# Altium footprint library SN74LS48N.PcbLib: 1 footprints
Each footprint in its own frame and in the unit in brackets; x right, y up, seen from the top. Pads: shape width x height; smd on the part's side, far side on the other; paste and mask are expansions set on the pad; w line width, h text height; cw(c..) or ccw(c..) is an arc to the next point about the centre after c.
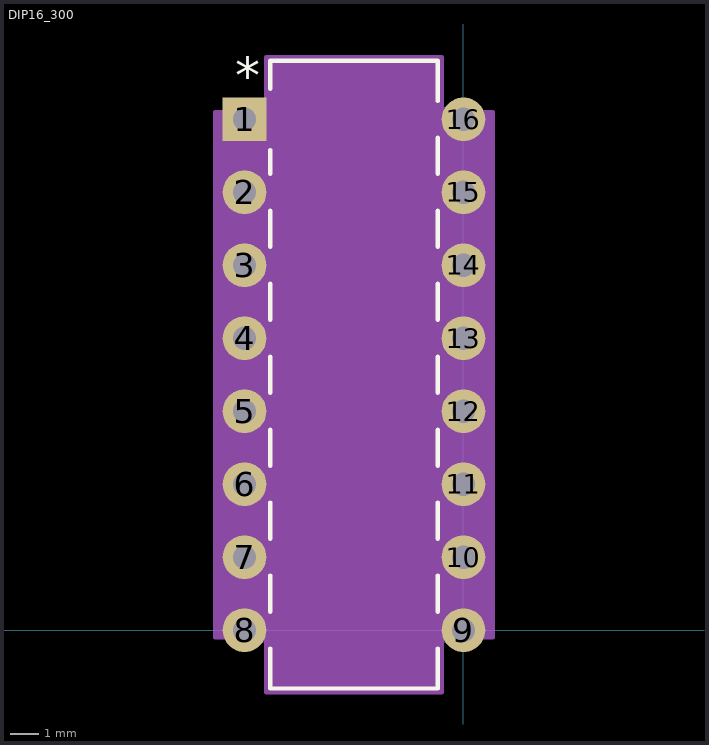
[diagram p0: the footprint, top view; thin cyan lines are the x and y axes]

## DIP16_300 [mil]
pads (16):
  rect 60x60 hole 32 paste-30 mask-30: 1(-300,700)
  round 60 hole 32 paste-30 mask-30: 2(-300,600) 3(-300,500) 4(-300,400) 5(-300,300) 6(-300,200) 7(-300,100) 8(-300,0) 9(0,0) 10(0,100) 11(0,200) 12(0,300) 13(0,400) 14(0,500) 15(0,600) 16(0,700)
Top Overlay:
  lines w6: -265,-25.15 -265,-80 -35,-80 -35,-25.15 ; -265,25.15 -265,74.85 ; -265,125.15 -265,174.85 ; -265,225.15 -265,274.85 ; -265,325.15 -265,374.85 ; -265,425.15 -265,474.85 ; -265,525.15 -265,574.85 ; -265,625.15 -265,657.89 ; -265,742.11 -265,780 -35,780 -35,725.15 ; -35,25.15 -35,74.85 ; -35,125.15 -35,174.85 ; -35,225.15 -35,274.85 ; -35,325.15 -35,374.85 ; -35,425.15 -35,474.85 ; -35,525.15 -35,574.85 ; -35,625.15 -35,674.85
  text "*" at -312.5,735 h50
  text ".Designator" at -287.5,325 h50
Mechanical 13:
  lines w1: -162,775 ccw(c-150,775) -138,775 ; -316,-16 -316,16 -260,16 -260,-16 -316,-16 ; -316,84 -316,116 -260,116 -260,84 -316,84 ; -316,184 -316,216 -260,216 -260,184 -316,184 ; -316,284 -316,316 -260,316 -260,284 -316,284 ; -316,384 -316,416 -260,416 -260,384 -316,384 ; -316,484 -316,516 -260,516 -260,484 -316,484 ; -316,584 -316,616 -260,616 -260,584 -316,584 ; -316,684 -316,716 -260,716 -260,684 -316,684 ; -260,-75 -40,-75 -40,775 -260,775 -260,-75 ; -40,-16 -40,16 16,16 16,-16 -40,-16 ; -40,84 -40,116 16,116 16,84 -40,84 ; -40,184 -40,216 16,216 16,184 -40,184 ; -40,284 -40,316 16,316 16,284 -40,284 ; -40,384 -40,416 16,416 16,384 -40,384 ; -40,484 -40,516 16,516 16,484 -40,484 ; -40,584 -40,616 16,616 16,584 -40,584 ; -40,684 -40,716 16,716 16,684 -40,684
  text ".Designator" at -287.5,325 h50
  text "*" at -262.5,675 h50
Mechanical 15:
  region: -30,-10 40,-10 40,710 -30,710 -30,785 -270,785 -270,710 -340,710 -340,-10 -270,-10 -270,-85 -30,-85
  lines w6: -340,-10 -340,710 -270,710 -270,785 -30,785 -30,710 40,710 40,-10 -30,-10 -30,-85 -270,-85 -270,-10 -340,-10
3D body "DIP16_300.step": height 205.12, standoff -100, extent -5,-775 315,75